# EAGLE library part 691311500024 (library Wurth_Terminal_Blocks_Connectors_rev15d)
WR-TBL Serie 311 - 5.08 mm Open Vertical PCB Header , 24 Pins=>Code : Con_TBL_Pluggable_5.08_PCB_THT_Simple_V_691311500024 <http://katalog.we-online.de/media/images/eican/Con_TBL_Pluggable_5.08_PCB_THT_Simple_V_6913115000xx_pf2.jpg> Details see: http://katalog.we-online.de/en/em/691_311_500_0xx Created 2014-06-23, Karrer Zheng 2014 (C) Würth Elektronik
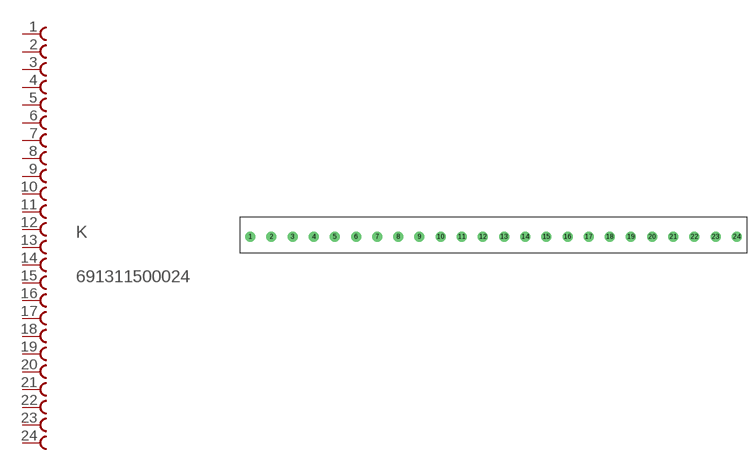
[diagram p109: symbol with the pads of 691311500024; footprint 691311500024]

Designator prefix K

## 691311500024  [691311500024]
1  1  pas
2  2  pas
3  3  pas
4  4  pas
5  5  pas
6  6  pas
7  7  pas
8  8  pas
9  9  pas
10  10  pas
11  11  pas
12  12  pas
13  13  pas
14  14  pas
15  15  pas
16  16  pas
17  17  pas
18  18  pas
19  19  pas
20  20  pas
21  21  pas
22  22  pas
23  23  pas
24  24  pas

## Footprint 691311500024 (pad centres in mm)
WR-TBL Serie 311 - 5.08 mm Open Vertical PCB Header , 24 Pins
drill 1.6: 1 -66.04,0; 2 -60.96,0; 3 -55.88,0; 4 -50.8,0; 5 -45.72,0; 6 -40.64,0; 7 -35.56,0; 8 -30.48,0; 9 -25.4,0; 10 -20.32,0; 11 -15.24,0; 12 -10.16,0; 13 -5.08,0; 14 0,0; 15 5.08,0; 16 10.16,0; 17 15.24,0; 18 20.32,0; 19 25.4,0; 20 30.48,0; 21 35.56,0; 22 40.64,0; 23 45.72,0; 24 50.8,0